# EAGLE library part MECHANICAL_HDR-1X8 (library chipKIT_Max32)
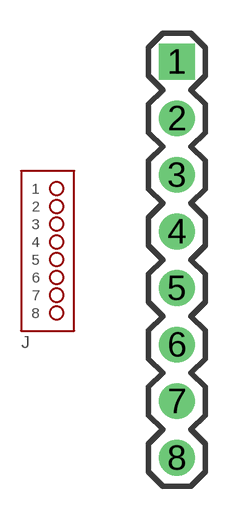
[diagram p4: symbol with the pads of MECHANICAL_HDR-1X8; footprint MECHANICAL_HDR-1X8]

Designator prefix J

## MECHANICAL_HDR-1X8  [MECHANICAL_HDR-1X8]
1  1  pas
2  2  pas
3  3  pas
4  4  pas
5  5  pas
6  6  pas
7  7  pas
8  8  pas

## Footprint MECHANICAL_HDR-1X8 (pad centres in mm)
drill 1.067 square: 1 0,8.89
drill 1.067: 2 0,6.35; 3 0,3.81; 4 0,1.27; 5 0,-1.27; 6 0,-3.81; 7 0,-6.35; 8 0,-8.89